# Altium footprint library Package_SO.PcbLib: 393 footprints (part 18 of 25)
Each footprint in its own frame and in the unit in brackets; x right, y up, seen from the top. Pads: shape width x height; smd on the part's side, far side on the other; paste and mask are expansions set on the pad; w line width, h text height; cw(c..) or ccw(c..) is an arc to the next point about the centre after c.
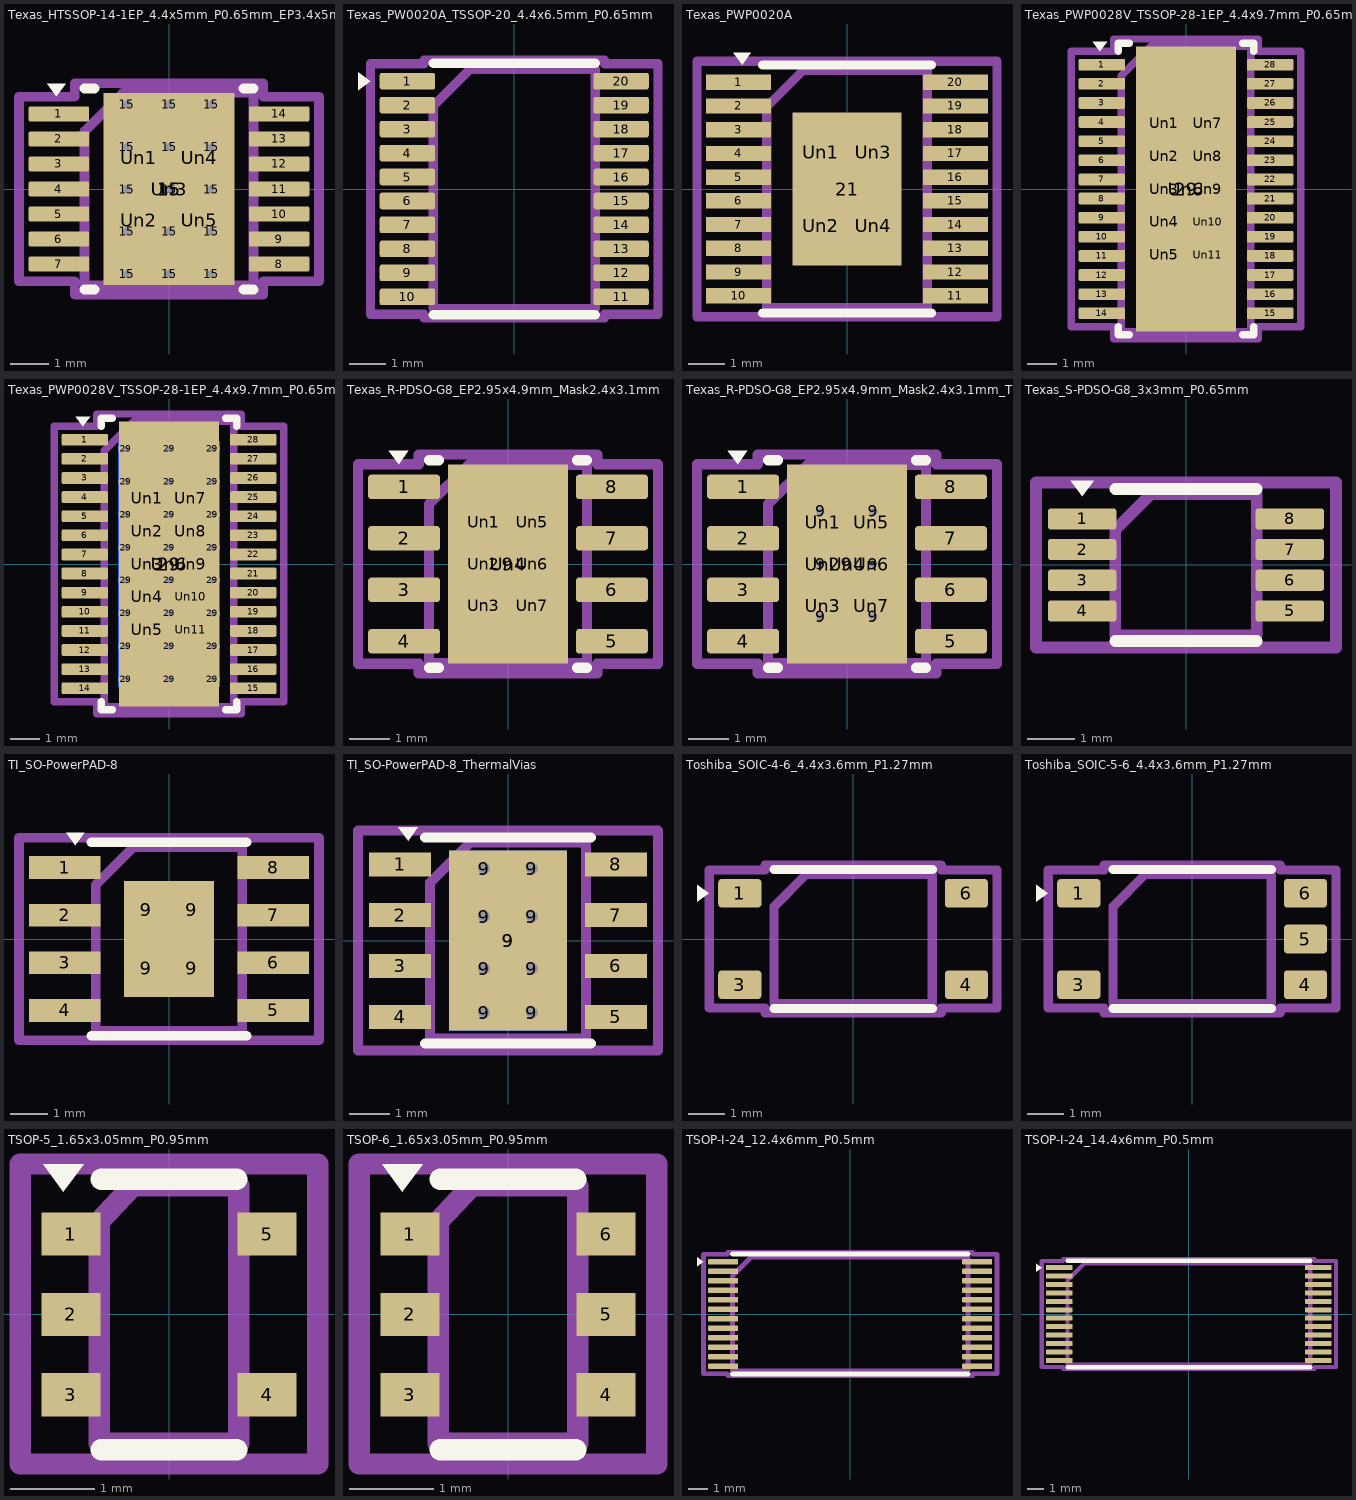
[diagram p17: the footprints below, top view; thin cyan lines are the x and y axes]

## Texas_HTSSOP-14-1EP_4.4x5mm_P0.65mm_EP3.4x5mm_Mask3.155x3.255mm_ThermalVias [mm]
pads (36):
  rrect25% 1.575x0.4 smd: 1(-2.863,1.95) 2(-2.863,1.3) 3(-2.863,0.65) 4(-2.863,0) 5(-2.863,-0.65) 6(-2.863,-1.3) 7(-2.863,-1.95) 8(2.863,-1.95) 9(2.863,-1.3) 10(2.863,-0.65) 11(2.863,0) 12(2.863,0.65) 13(2.863,1.3) 14(2.863,1.95)
  round 0.5 hole 0.2: 15(-1.1,-2.2) 15(-1.1,-1.1) 15(-1.1,0) 15(-1.1,1.1) 15(-1.1,2.2) 15(0,-2.2) 15(0,-1.1) 15(0,0) 15(0,1.1) 15(0,2.2) 15(1.1,-2.2) 15(1.1,-1.1) 15(1.1,0) 15(1.1,1.1) 15(1.1,2.2)
  rect 3.4x5 smd: 15(0,0)
  rect 2.7x4.9 smd far side: 15(0,0)
  rrect20% 1.27x1.31 on Top Paste: Un1(-0.79,0.815) Un2(-0.79,-0.815) Un4(0.79,0.815) Un5(0.79,-0.815)
  rect 3.155x3.255 on Top Solder: Un3(0,0)
F.SilkS:
  region: -2.925,2.41 -3.165,2.74 -2.685,2.74
  lines w0.254: -2.2,-2.61 -1.936,-2.61 ; -2.2,2.61 -1.936,2.61 ; 1.936,-2.61 2.2,-2.61 ; 1.936,2.61 2.2,2.61
Top Assembly:
  lines w0.254: -2.2,-2.5 2.2,-2.5 2.2,2.5 -1.2,2.5 -2.2,1.5 -2.2,-2.5
  text "'.Designator'" at -4.047,-0.84 h1
Top Courtyard:
  lines w0.254: -3.9,-2.4 -2.45,-2.4 -2.45,-2.75 2.45,-2.75 2.45,-2.4 3.9,-2.4 3.9,2.4 2.45,2.4 2.45,2.75 -2.45,2.75 -2.45,2.4 -3.9,2.4 -3.9,-2.4
Top Designator:
  text ".Designator" at -7.702,-0.508 h1.52

## Texas_PW0020A_TSSOP-20_4.4x6.5mm_P0.65mm [mm]
pads (20):
  rrect25% 1.5x0.45 smd: 1(-2.9,2.925) 2(-2.9,2.275) 3(-2.9,1.625) 4(-2.9,0.975) 5(-2.9,0.325) 6(-2.9,-0.325) 7(-2.9,-0.975) 8(-2.9,-1.625) 9(-2.9,-2.275) 10(-2.9,-2.925) 11(2.9,-2.925) 12(2.9,-2.275) 13(2.9,-1.625) 14(2.9,-0.975) 15(2.9,-0.325) 16(2.9,0.325) 17(2.9,0.975) 18(2.9,1.625) 19(2.9,2.275) 20(2.9,2.925)
F.SilkS:
  region: -3.91,2.925 -4.24,2.685 -4.24,3.165
  lines w0.254: -2.2,-3.41 0,-3.41 2.2,-3.41 ; -2.2,3.41 0,3.41 2.2,3.41
Top Assembly:
  lines w0.254: -2.2,-3.25 2.2,-3.25 2.2,3.25 -1.2,3.25 -2.2,2.25 -2.2,-3.25
  text "'.Designator'" at -4.047,-0.84 h1
Top Courtyard:
  lines w0.254: -3.9,-3.4 -2.45,-3.4 -2.45,-3.5 2.45,-3.5 2.45,-3.4 3.9,-3.4 3.9,3.4 2.45,3.4 2.45,3.5 -2.45,3.5 -2.45,3.4 -3.9,3.4 -3.9,-3.4
Top Designator:
  text ".Designator" at -7.724,-0.508 h1.52

## Texas_PWP0020A [mm]
pads (25):
  rect 1.78x0.42 smd: 1(-2.97,2.925) 2(-2.97,2.275) 3(-2.97,1.625) 4(-2.97,0.975) 5(-2.97,0.325) 6(-2.97,-0.325) 7(-2.97,-0.975) 8(-2.97,-1.625) 9(-2.97,-2.275) 10(-2.97,-2.925) 11(2.97,-2.925) 12(2.97,-2.275) 13(2.97,-1.625) 14(2.97,-0.975) 15(2.97,-0.325) 16(2.97,0.325) 17(2.97,0.975) 18(2.97,1.625) 19(2.97,2.275) 20(2.97,2.925)
  rect 3x4.2 smd: 21(0,0)
  rect 1.275x1.875 on Top Paste: Un1(-0.713,1.012) Un2(-0.713,-1.012) Un3(0.713,1.012) Un4(0.713,-1.012)
F.SilkS:
  region: -2.875,3.4 -3.115,3.73 -2.635,3.73
  lines w0.254: -2.31,-3.4 2.31,-3.4 ; -2.31,3.4 2.31,3.4
Top Assembly:
  lines w0.254: -2.2,-3.25 2.2,-3.25 2.2,3.25 -1.2,3.25 -2.2,2.25 -2.2,-3.25
  text "'.Designator'" at -4.047,-0.84 h1
Top Courtyard:
  lines w0.254: -4.11,-3.5 4.11,-3.5 4.11,3.5 -4.11,3.5 -4.11,-3.5
Top Designator:
  text ".Designator" at -7.618,-0.456 h1.52

## Texas_PWP0028V_TSSOP-28-1EP_4.4x9.7mm_P0.65mm_EP3.4x9.7mm_Mask2.94x5.62mm [mm]
pads (40):
  rrect25% 1.575x0.4 smd: 1(-2.863,4.225) 2(-2.863,3.575) 3(-2.863,2.925) 4(-2.863,2.275) 5(-2.863,1.625) 6(-2.863,0.975) 7(-2.863,0.325) 8(-2.863,-0.325) 9(-2.863,-0.975) 10(-2.863,-1.625) 11(-2.863,-2.275) 12(-2.863,-2.925) 13(-2.863,-3.575) 14(-2.863,-4.225) 15(2.863,-4.225) 16(2.863,-3.575) 17(2.863,-2.925) 18(2.863,-2.275) 19(2.863,-1.625) 20(2.863,-0.975) 21(2.863,-0.325) 22(2.863,0.325) 23(2.863,0.975) 24(2.863,1.625) 25(2.863,2.275) 26(2.863,2.925) 27(2.863,3.575) 28(2.863,4.225)
  rect 3.4x9.7 smd: 29(0,0)
  rrect25% 1.19x0.91 on Top Paste: Un1(-0.735,2.24) Un2(-0.735,1.12) Un3(-0.735,0) Un4(-0.735,-1.12) Un5(-0.735,-2.24) Un7(0.735,2.24) Un8(0.735,1.12) Un9(0.735,0) Un10(0.735,-1.12) Un11(0.735,-2.24)
  rect 2.94x5.62 on Top Solder: Un6(0,0)
F.SilkS:
  region: -2.925,4.685 -3.165,5.015 -2.685,5.015
  lines w0.254: -2.31,-4.685 -2.31,-4.96 -1.936,-4.96 ; -2.31,4.685 -2.31,4.96 -1.936,4.96 ; 1.936,-4.96 2.31,-4.96 2.31,-4.685 ; 1.936,4.96 2.31,4.96 2.31,4.685
Top Assembly:
  lines w0.254: -2.2,-4.85 2.2,-4.85 2.2,4.85 -1.2,4.85 -2.2,3.85 -2.2,-4.85
  text "'.Designator'" at -4.047,-0.84 h1
Top Courtyard:
  lines w0.254: -3.9,-4.68 -2.45,-4.68 -2.45,-5.1 2.45,-5.1 2.45,-4.68 3.9,-4.68 3.9,4.68 2.45,4.68 2.45,5.1 -2.45,5.1 -2.45,4.68 -3.9,4.68 -3.9,-4.68
Top Designator:
  text ".Designator" at -7.702,-0.508 h1.52

## Texas_PWP0028V_TSSOP-28-1EP_4.4x9.7mm_P0.65mm_EP3.4x9.7mm_Mask2.94x5.62mm_ThermalVias [mm]
pads (65):
  rrect25% 1.575x0.4 smd: 1(-2.863,4.225) 2(-2.863,3.575) 3(-2.863,2.925) 4(-2.863,2.275) 5(-2.863,1.625) 6(-2.863,0.975) 7(-2.863,0.325) 8(-2.863,-0.325) 9(-2.863,-0.975) 10(-2.863,-1.625) 11(-2.863,-2.275) 12(-2.863,-2.925) 13(-2.863,-3.575) 14(-2.863,-4.225) 15(2.863,-4.225) 16(2.863,-3.575) 17(2.863,-2.925) 18(2.863,-2.275) 19(2.863,-1.625) 20(2.863,-0.975) 21(2.863,-0.325) 22(2.863,0.325) 23(2.863,0.975) 24(2.863,1.625) 25(2.863,2.275) 26(2.863,2.925) 27(2.863,3.575) 28(2.863,4.225)
  round 0.5 hole 0.2: 29(-1.47,-3.92) 29(-1.47,-2.8) 29(-1.47,-1.68) 29(-1.47,-0.56) 29(-1.47,0.56) 29(-1.47,1.68) 29(-1.47,2.8) 29(-1.47,3.92) 29(0,-3.92) 29(0,-2.8) 29(0,-1.68) 29(0,-0.56) 29(0,0.56) 29(0,1.68) 29(0,2.8) 29(0,3.92) 29(1.47,-3.92) 29(1.47,-2.8) 29(1.47,-1.68) 29(1.47,-0.56) 29(1.47,0.56) 29(1.47,1.68) 29(1.47,2.8) 29(1.47,3.92)
  rect 3.4x9.7 smd: 29(0,0)
  rect 3.44x8.34 smd far side: 29(0,0)
  rrect25% 1.27x0.97 on Top Paste: Un1(-0.735,2.24) Un2(-0.735,1.12) Un3(-0.735,0) Un4(-0.735,-1.12) Un5(-0.735,-2.24) Un7(0.735,2.24) Un8(0.735,1.12) Un9(0.735,0) Un10(0.735,-1.12) Un11(0.735,-2.24)
  rect 2.94x5.62 on Top Solder: Un6(0,0)
F.SilkS:
  region: -2.925,4.685 -3.165,5.015 -2.685,5.015
  lines w0.254: -2.31,-4.685 -2.31,-4.96 -1.936,-4.96 ; -2.31,4.685 -2.31,4.96 -1.936,4.96 ; 1.936,-4.96 2.31,-4.96 2.31,-4.685 ; 1.936,4.96 2.31,4.96 2.31,4.685
Top Assembly:
  lines w0.254: -2.2,-4.85 2.2,-4.85 2.2,4.85 -1.2,4.85 -2.2,3.85 -2.2,-4.85
  text "'.Designator'" at -4.047,-0.84 h1
Top Courtyard:
  lines w0.254: -3.9,-4.68 -2.45,-4.68 -2.45,-5.1 2.45,-5.1 2.45,-4.68 3.9,-4.68 3.9,4.68 2.45,4.68 2.45,5.1 -2.45,5.1 -2.45,4.68 -3.9,4.68 -3.9,-4.68
Top Designator:
  text ".Designator" at -7.702,-0.508 h1.52

## Texas_R-PDSO-G8_EP2.95x4.9mm_Mask2.4x3.1mm [mm]
pads (16):
  rrect25% 1.775x0.6 smd: 1(-2.562,1.905) 2(-2.562,0.635) 3(-2.562,-0.635) 4(-2.562,-1.905) 5(2.562,-1.905) 6(2.562,-0.635) 7(2.562,0.635) 8(2.562,1.905)
  rect 2.95x4.9 smd: 9(0,0)
  rrect25% 0.97x0.83 on Top Paste: Un1(-0.6,1.03) Un2(-0.6,0) Un3(-0.6,-1.03) Un5(0.6,1.03) Un6(0.6,0) Un7(0.6,-1.03)
  rect 2.4x3.1 on Top Solder: Un4(0,0)
F.SilkS:
  region: -2.7,2.465 -2.94,2.795 -2.46,2.795
  lines w0.254: -1.95,-2.56 -1.711,-2.56 ; -1.95,2.56 -1.711,2.56 ; 1.711,-2.56 1.95,-2.56 ; 1.711,2.56 1.95,2.56
Top Assembly:
  lines w0.254: -1.95,-2.45 1.95,-2.45 1.95,2.45 -0.975,2.45 -1.95,1.475 -1.95,-2.45
  text "'.Designator'" at -3.969,-0.827 h0.98
Top Courtyard:
  lines w0.254: -3.7,-2.46 -2.2,-2.46 -2.2,-2.7 2.2,-2.7 2.2,-2.46 3.7,-2.46 3.7,2.46 2.2,2.46 2.2,2.7 -2.2,2.7 -2.2,2.46 -3.7,2.46 -3.7,-2.46
Top Designator:
  text ".Designator" at -7.763,-0.508 h1.52

## Texas_R-PDSO-G8_EP2.95x4.9mm_Mask2.4x3.1mm_ThermalVias [mm]
pads (23):
  rrect25% 1.775x0.6 smd: 1(-2.562,1.905) 2(-2.562,0.635) 3(-2.562,-0.635) 4(-2.562,-1.905) 5(2.562,-1.905) 6(2.562,-0.635) 7(2.562,0.635) 8(2.562,1.905)
  round 0.5 hole 0.2: 9(-0.65,-1.3) 9(-0.65,0) 9(-0.65,1.3) 9(0.65,-1.3) 9(0.65,0) 9(0.65,1.3)
  rect 2.95x4.9 smd: 9(0,0)
  rect 1.8x3.1 smd far side: 9(0,0)
  rrect25% 1.04x0.89 on Top Paste: Un1(-0.6,1.03) Un2(-0.6,0) Un3(-0.6,-1.03) Un5(0.6,1.03) Un6(0.6,0) Un7(0.6,-1.03)
  rect 2.4x3.1 on Top Solder: Un4(0,0)
F.SilkS:
  region: -2.7,2.465 -2.94,2.795 -2.46,2.795
  lines w0.254: -1.95,-2.56 -1.711,-2.56 ; -1.95,2.56 -1.711,2.56 ; 1.711,-2.56 1.95,-2.56 ; 1.711,2.56 1.95,2.56
Top Assembly:
  lines w0.254: -1.95,-2.45 1.95,-2.45 1.95,2.45 -0.975,2.45 -1.95,1.475 -1.95,-2.45
  text "'.Designator'" at -3.969,-0.827 h0.98
Top Courtyard:
  lines w0.254: -3.7,-2.46 -2.2,-2.46 -2.2,-2.7 2.2,-2.7 2.2,-2.46 3.7,-2.46 3.7,2.46 2.2,2.46 2.2,2.7 -2.2,2.7 -2.2,2.46 -3.7,2.46 -3.7,-2.46
Top Designator:
  text ".Designator" at -7.763,-0.508 h1.52

## Texas_S-PDSO-G8_3x3mm_P0.65mm [mm]
pads (8):
  rrect25% 1.45x0.45 smd: 1(-2.2,0.975) 2(-2.2,0.325) 3(-2.2,-0.325) 4(-2.2,-0.975) 5(2.2,-0.975) 6(2.2,-0.325) 7(2.2,0.325) 8(2.2,0.975)
F.SilkS:
  region: -2.2,1.46 -2.44,1.79 -1.96,1.79
  lines w0.254: -1.5,-1.61 0,-1.61 1.5,-1.61 ; -1.5,1.61 0,1.61 1.5,1.61
Top Assembly:
  lines w0.254: -1.5,-1.5 1.5,-1.5 1.5,1.5 -0.75,1.5 -1.5,0.75 -1.5,-1.5
  text "'.Designator'" at -3.033,-0.628 h0.75
Top Courtyard:
  lines w0.254: -3.18,-1.75 3.18,-1.75 3.18,1.75 -3.18,1.75 -3.18,-1.75
Top Designator:
  text ".Designator" at -7.618,-0.508 h1.52

## TI_SO-PowerPAD-8 [mm]
pads (12):
  rect 1.91x0.61 smd: 1(-2.78,1.905) 2(-2.78,0.635) 3(-2.78,-0.635) 4(-2.78,-1.905) 5(2.78,-1.905) 6(2.78,-0.635) 7(2.78,0.635) 8(2.78,1.905)
  rect 1.205x1.55 smd: 9(-0.603,-0.775) 9(-0.603,0.775) 9(0.603,-0.775) 9(0.603,0.775)
F.SilkS:
  region: -2.5,2.5 -2.74,2.83 -2.26,2.83
  lines w0.254: -2.075,-2.575 2.075,-2.575 ; -2.075,2.575 2.075,2.575
Top Assembly:
  lines w0.254: -1.95,-2.45 1.95,-2.45 1.95,2.45 -0.95,2.45 -1.95,1.45 -1.95,-2.45
  text "'.Designator'" at -4.047,-0.84 h1
Top Courtyard:
  lines w0.254: -4,-2.7 4,-2.7 4,2.7 -4,2.7 -4,-2.7
Top Designator:
  text ".Designator" at -7.652,-0.506 h1.52

## TI_SO-PowerPAD-8_ThermalVias [mm]
pads (19):
  rect 1.55x0.6 smd: 1(-2.7,1.905) 2(-2.7,0.635) 3(-2.7,-0.635) 4(-2.7,-1.905) 5(2.7,-1.905) 6(2.7,-0.635) 7(2.7,0.635) 8(2.7,1.905)
  round 0.6 hole 0.3: 9(-0.6,-1.8) 9(-0.6,-0.7) 9(-0.6,0.6) 9(-0.6,1.8) 9(0.6,-1.8) 9(0.6,-0.7) 9(0.6,0.6) 9(0.6,1.8)
  rect 2.95x4.5 smd: 9(0,0)
  rect 2.6x3.1 smd: 9(0,0)
  rect 2.95x4.5 smd far side: 9(0,0)
F.SilkS:
  region: -2.5,2.5 -2.74,2.83 -2.26,2.83
  lines w0.254: -2.075,-2.575 2.075,-2.575 ; -2.075,2.575 2.075,2.575
Top Assembly:
  lines w0.254: -1.95,-2.45 1.95,-2.45 1.95,2.45 -0.95,2.45 -1.95,1.45 -1.95,-2.45
  text "'.Designator'" at -3.642,-0.756 h0.9
Top Courtyard:
  lines w0.254: -3.75,-2.75 3.75,-2.75 3.75,2.75 -3.75,2.75 -3.75,-2.75
Top Designator:
  text ".Designator" at -7.618,-0.508 h1.52

## Toshiba_SOIC-4-6_4.4x3.6mm_P1.27mm [mm]
pads (4):
  rrect25% 1.2x0.8 smd: 1(-3.15,1.27) 3(-3.15,-1.27) 4(3.15,-1.27) 6(3.15,1.27)
F.SilkS:
  region: -4.01,1.27 -4.34,1.03 -4.34,1.51
  lines w0.254: -2.2,-1.93 0,-1.93 2.2,-1.93 ; -2.2,1.93 0,1.93 2.2,1.93
Top Assembly:
  lines w0.254: -2.2,-1.8 2.2,-1.8 2.2,1.8 -1.3,1.8 -2.2,0.9 -2.2,-1.8
  text "'.Designator'" at -4.047,-0.84 h1
Top Courtyard:
  lines w0.254: -4,-1.92 -2.45,-1.92 -2.45,-2.05 2.45,-2.05 2.45,-1.92 4,-1.92 4,1.92 2.45,1.92 2.45,2.05 -2.45,2.05 -2.45,1.92 -4,1.92 -4,-1.92
Top Designator:
  text ".Designator" at -7.724,-0.508 h1.52

## Toshiba_SOIC-5-6_4.4x3.6mm_P1.27mm [mm]
pads (5):
  rrect25% 1.2x0.8 smd: 1(-3.15,1.27) 3(-3.15,-1.27) 4(3.15,-1.27) 5(3.15,0) 6(3.15,1.27)
F.SilkS:
  region: -4.01,1.27 -4.34,1.03 -4.34,1.51
  lines w0.254: -2.2,-1.93 0,-1.93 2.2,-1.93 ; -2.2,1.93 0,1.93 2.2,1.93
Top Assembly:
  lines w0.254: -2.2,-1.8 2.2,-1.8 2.2,1.8 -1.3,1.8 -2.2,0.9 -2.2,-1.8
  text "'.Designator'" at -4.047,-0.84 h1
Top Courtyard:
  lines w0.254: -4,-1.92 -2.45,-1.92 -2.45,-2.05 2.45,-2.05 2.45,-1.92 4,-1.92 4,1.92 2.45,1.92 2.45,2.05 -2.45,2.05 -2.45,1.92 -4,1.92 -4,-1.92
Top Designator:
  text ".Designator" at -7.724,-0.508 h1.52

## TSOP-5_1.65x3.05mm_P0.95mm [mm]
pads (5):
  rect 0.7x0.51 smd: 1(-1.16,0.95) 2(-1.16,0) 3(-1.16,-0.95) 4(1.16,-0.95) 5(1.16,0.95)
F.SilkS:
  region: -1.25,1.45 -1.49,1.78 -1.01,1.78
  lines w0.254: -0.8,-1.6 0.8,-1.6 ; -0.8,1.6 0.8,1.6
Top Assembly:
  lines w0.254: -0.825,-1.525 0.825,-1.525 0.825,1.525 -0.425,1.525 -0.825,1.1 -0.825,-1.525
  text "'.Designator'" at 0.42,-2.023 h0.5
Top Courtyard:
  lines w0.254: -1.76,-1.77 1.76,-1.77 1.76,1.78 -1.76,1.78 -1.76,-1.77
Top Designator:
  text ".Designator" at -7.618,-0.583 h1.52

## TSOP-6_1.65x3.05mm_P0.95mm [mm]
pads (6):
  rect 0.7x0.51 smd: 1(-1.16,0.95) 2(-1.16,0) 3(-1.16,-0.95) 4(1.16,-0.95) 5(1.16,0) 6(1.16,0.95)
F.SilkS:
  region: -1.25,1.45 -1.49,1.78 -1.01,1.78
  lines w0.254: -0.8,-1.6 0.8,-1.6 ; -0.8,1.6 0.8,1.6
Top Assembly:
  lines w0.254: -0.825,-1.525 0.825,-1.525 0.825,1.525 -0.425,1.525 -0.825,1.1 -0.825,-1.525
  text "'.Designator'" at 0.42,-2.023 h0.5
Top Courtyard:
  lines w0.254: -1.76,-1.77 1.76,-1.77 1.76,1.78 -1.76,1.78 -1.76,-1.77
Top Designator:
  text ".Designator" at -7.618,-0.583 h1.52

## TSOP-I-24_12.4x6mm_P0.5mm [mm]
pads (24):
  rrect25% 1.575x0.3 smd: 1(-6.687,2.75) 2(-6.687,2.25) 3(-6.687,1.75) 4(-6.687,1.25) 5(-6.687,0.75) 6(-6.687,0.25) 7(-6.687,-0.25) 8(-6.687,-0.75) 9(-6.687,-1.25) 10(-6.687,-1.75) 11(-6.687,-2.25) 12(-6.687,-2.75) 13(6.687,-2.75) 14(6.687,-2.25) 15(6.687,-1.75) 16(6.687,-1.25) 17(6.687,-0.75) 18(6.687,-0.25) 19(6.687,0.25) 20(6.687,0.75) 21(6.687,1.25) 22(6.687,1.75) 23(6.687,2.25) 24(6.687,2.75)
F.SilkS:
  region: -7.735,2.75 -8.065,2.51 -8.065,2.99
  lines w0.254: -6.2,-3.16 0,-3.16 6.2,-3.16 ; -6.2,3.16 0,3.16 6.2,3.16
Top Assembly:
  lines w0.254: -6.2,-3 6.2,-3 6.2,3 -5.2,3 -6.2,2 -6.2,-3
  text "'.Designator'" at -4.047,-0.84 h1
Top Courtyard:
  lines w0.254: -7.73,-3.15 -6.45,-3.15 -6.45,-3.25 6.45,-3.25 6.45,-3.15 7.73,-3.15 7.73,3.15 6.45,3.15 6.45,3.25 -6.45,3.25 -6.45,3.15 -7.73,3.15 -7.73,-3.15
Top Designator:
  text ".Designator" at -7.722,-0.508 h1.52

## TSOP-I-24_14.4x6mm_P0.5mm [mm]
pads (24):
  rrect25% 1.575x0.3 smd: 1(-7.688,2.75) 2(-7.688,2.25) 3(-7.688,1.75) 4(-7.688,1.25) 5(-7.688,0.75) 6(-7.688,0.25) 7(-7.688,-0.25) 8(-7.688,-0.75) 9(-7.688,-1.25) 10(-7.688,-1.75) 11(-7.688,-2.25) 12(-7.688,-2.75) 13(7.688,-2.75) 14(7.688,-2.25) 15(7.688,-1.75) 16(7.688,-1.25) 17(7.688,-0.75) 18(7.688,-0.25) 19(7.688,0.25) 20(7.688,0.75) 21(7.688,1.25) 22(7.688,1.75) 23(7.688,2.25) 24(7.688,2.75)
F.SilkS:
  region: -8.735,2.75 -9.065,2.51 -9.065,2.99
  lines w0.254: -7.2,-3.16 0,-3.16 7.2,-3.16 ; -7.2,3.16 0,3.16 7.2,3.16
Top Assembly:
  lines w0.254: -7.2,-3 7.2,-3 7.2,3 -6.2,3 -7.2,2 -7.2,-3
  text "'.Designator'" at -4.047,-0.84 h1
Top Courtyard:
  lines w0.254: -8.73,-3.15 -7.45,-3.15 -7.45,-3.25 7.45,-3.25 7.45,-3.15 8.73,-3.15 8.73,3.15 7.45,3.15 7.45,3.25 -7.45,3.25 -7.45,3.15 -8.73,3.15 -8.73,-3.15
Top Designator:
  text ".Designator" at -7.722,-0.508 h1.52